# Altium schematic symbol library D_TVS_ARRAY_3P_CA.SchLib: 1 symbol
Pins are listed as number, name and electrical type; pins without a type are passive.

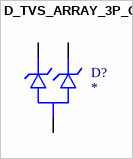
[diagram p0: symbol D_TVS_ARRAY_3P_CA]

## D_TVS_ARRAY_3P_CA
designator D?
pins: 1, 2, 3